# EAGLE library part 8PIN (library Connector-FFC_MORISHITA)
FFC connector
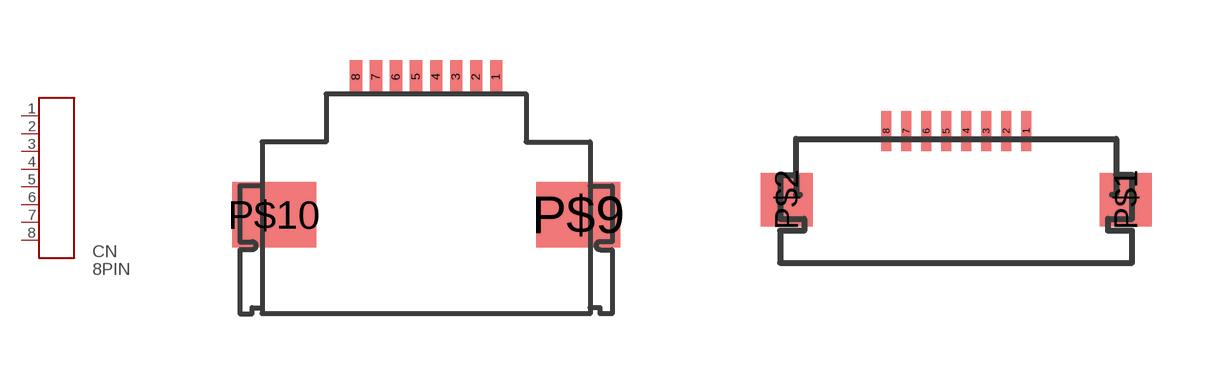
[diagram p0: symbol with the pads of FA5-8; footprints FA5-8, XF2L-0825-1]

Designator prefix CN

## 8PIN  [FA5-8]
1  P$1
2  P$2
3  P$3
4  P$4
5  P$5
6  P$6
7  P$7
8  P$8

## 8PINXF2L  [XF2L-0825-1]
Pads as for FA5-8

## Footprint FA5-8 (pad centres in mm)
FA5 8 pole , 0.5mm pitch (JAE) infomation: http://jae-connector.com/jp/index.cfm
smd 0.3 x 0.85: 1 1.75,0.425; 2 1.25,0.425; 3 0.75,0.425; 4 0.25,0.425; 5 -0.25,0.425; 6 -0.75,0.425; 7 -1.25,0.425; 8 -1.75,0.425
smd 2.1 x 1.65: P$9 3.8,-3.025; P$10 -3.8,-3.025

## Footprint XF2L-0825-1 (pad centres in mm)
XF2L 0.5mm pitch 8 pins, ZIF Single-LockingConnector (omrom) store: Digi-Key http://digikey.com/jp/digihome.html
smd 0.25 x 1: 1 1.75,0.5; 2 1.25,0.5; 3 0.75,0.5; 4 0.25,0.5; 5 -0.25,0.5; 6 -0.75,0.5; 7 -1.25,0.5; 8 -1.75,0.5
smd 1.3 x 1.34: P$1 4.24,-1.22; P$2 -4.24,-1.22